# Altium schematic symbol library Resistors 0603.SchLib: 1 symbol
Pins are listed as number, name and electrical type; pins without a type are passive.

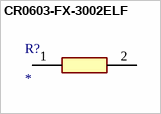
[diagram p0: symbol CR0603-FX-3002ELF]

## CR0603-FX-3002ELF
designator R?
Resistor; Manufacturer_Name: Bourns; Manufacturer_Part_Number: CR0603-FX-3002ELF; Description: BOURNS - CR0603-FX-3002ELF - RES; Datasheet Link: https://www.bourns.com/pdfs/chpreztr.pdf; Height: 0.55mm; Mouser Part Number: 652-CR0603FX-3002ELF; Mouser Price/Stock: https://www.mouser.co.uk/ProductDetail/Bourns/CR0603-FX-3002ELF?qs=I4suiNu8FYASKlbXph1m%252BQ%3D%3D; Arrow Part Number: CR0603-FX-3002ELF; Arrow Price/Stock: https://www.arrow.com/en/products/cr0603-fx-3002elf/bourns?region=nac
footprint RESC1608X55N
pins: 1, 2